# Altium schematic symbol library industrial_GPIO.SchLib: 6 symbols
Pins are listed as number, name and electrical type; pins without a type are passive.

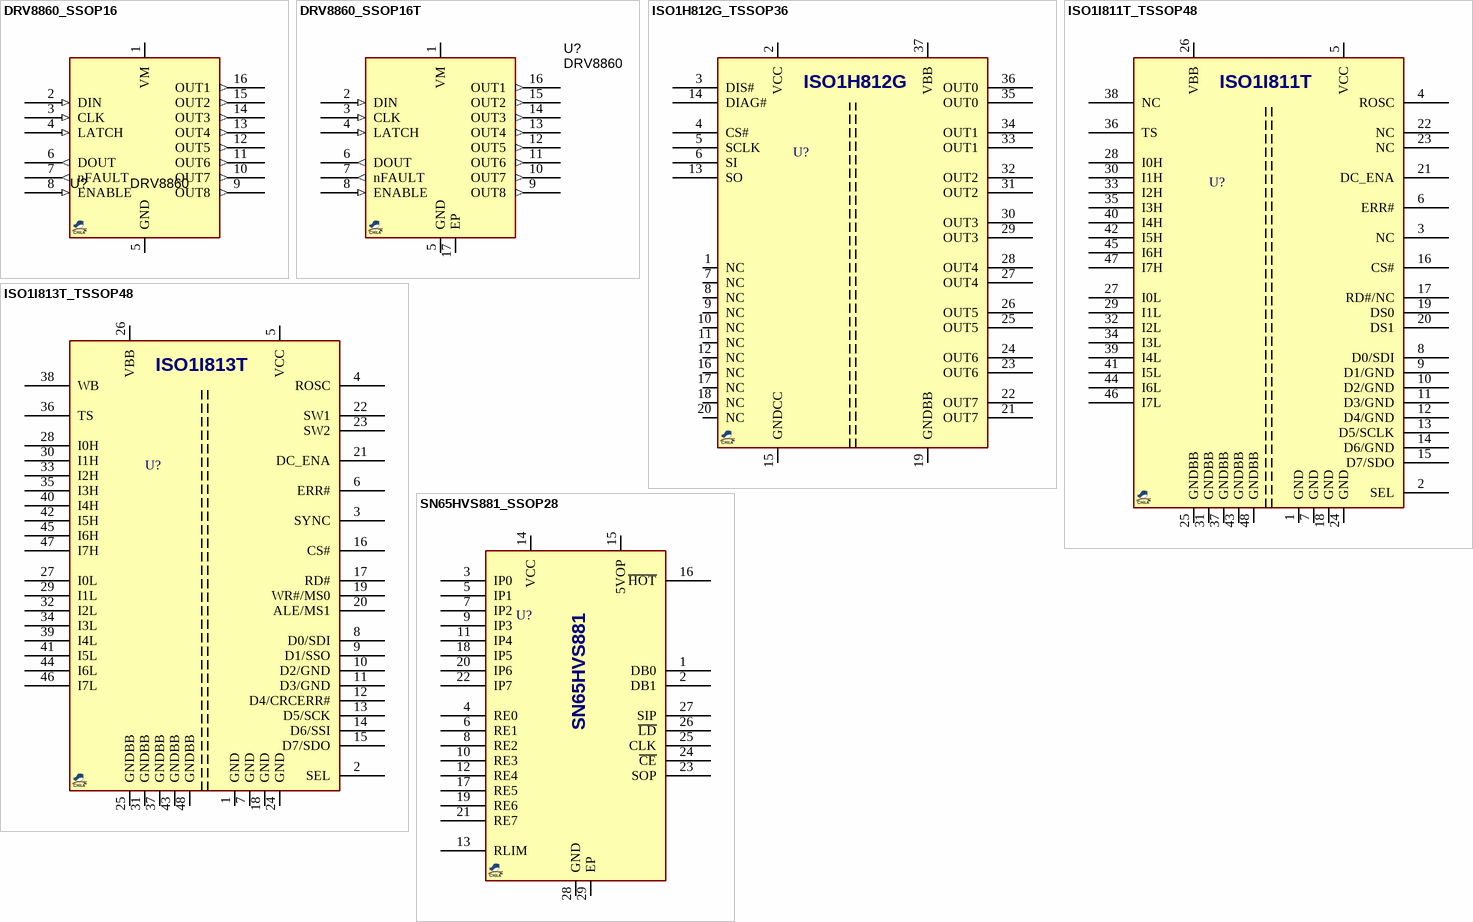
[diagram p0: symbols DRV8860_SSOP16 to SN65HVS881_SSOP28]

## DRV8860_SSOP16
designator U?, comment DRV8860
Driver, LOW SIDE, 8ch, SPI; MANF: Texas Instruments; MANF_P#: DRV8860PWR; PARAM2: 8~38VM; PARAM: 200mA per Ch, -40~85°C; PRICE: 4$; VALUE: DRV8860
footprint SOG65_16 (PW TSSOP (TI), MO-153-AB (JEDEC), 16Lead, pitch: 0.65mm, 5x4.4x1.2mm)
pins: 1 VM (power), 2 DIN (in), 3 CLK (in), 4 LATCH (in), 5 GND (power), 6 DOUT (out), 7 nFAULT (out), 8 ENABLE (in), 9 OUT8 (out), 10 OUT7 (out), 11 OUT6 (out), 12 OUT5 (out), 13 OUT4 (out), 14 OUT3 (out), 15 OUT2 (out), 16 OUT1 (out)

## DRV8860_SSOP16T
designator U?, comment DRV8860
Driver, LOW SIDE, 8ch, SPI; MANF: Texas Instruments; MANF_P#: DRV8860PWP; PARAM2: 8~38VM; PARAM: 200mA per Ch, -40~85°C; PRICE: 4$; VALUE: DRV8860
footprint SOG65_16T (TSSOP 4.4mm(MAXIM), MO-153-ABT (JEDEC), 16Lead, pitch: 0.65mm, 5x4.4x1.2mm)
pins: 1 VM (power), 2 DIN (in), 3 CLK (in), 4 LATCH (in), 5 GND (power), 6 DOUT (out), 7 nFAULT (out), 8 ENABLE (in), 9 OUT8 (out), 10 OUT7 (out), 11 OUT6 (out), 12 OUT5 (out), 13 OUT4 (out), 14 OUT3 (out), 15 OUT2 (out), 16 OUT1 (out), 17 EP

## ISO1H812G_TSSOP36
designator U?, comment ISO1H812G  (value not drawn)
Output, Isolated Industrial, 8ch; MANF: Infineon; MANF_P#: ISO1H812GAUMA; PARAM2: 11~35Vcc, 3.3/5v; PARAM: 0.625A, -40~85°C; PRICE: 8$; VALUE: ISO1H812G
footprint SOG65_36T_D (HSSOP 36 DKD 11mm Width, 0.65mm pitch)
pins: 1 NC, 2 VCC, 3 DIS#, 4 CS#, 5 SCLK, 6 SI, 7 NC, 8 NC, 9 NC, 10 NC, 11 NC, 12 NC, 13 SO, 14 DIAG#, 15 GNDCC, 16 NC, 17 NC, 18 NC, 19 GNDBB, 20 NC, 21 OUT7, 22 OUT7, 23 OUT6, 24 OUT6, 25 OUT5, 26 OUT5, 27 OUT4, 28 OUT4, 29 OUT3, 30 OUT3, 31 OUT2, 32 OUT2, 33 OUT1, 34 OUT1, 35 OUT0, 36 OUT0, 37 VBB

## ISO1I811T_TSSOP48
designator U?, comment ISO1I811T  (value not drawn)
Input, Isolated Industrial, 8ch; MANF: Infineon; MANF_P#: ISO1I811TXUMA1; PARAM2: 9.6~35Vcc, 3.3/5v; PARAM: -40~85°C; PRICE: 6$; VALUE: ISO1I811T
footprint SOG50_48 (DGG, MO-153-ED, SOT362-1, TSSOP48, pitch: 0.5mm, 12.5x6.1x1.2mm)
pins: 1 GND, 2 SEL, 3 NC, 4 ROSC, 5 VCC, 6 ERR#, 7 GND, 8 D0/SDI, 9 D1/GND, 10 D2/GND, 11 D3/GND, 12 D4/GND, 13 D5/SCLK, 14 D6/GND, 15 D7/SDO, 16 CS#, 17 RD#/NC, 18 GND, 19 DS0, 20 DS1, 21 DC_ENA, 22 NC, 23 NC, 24 GND, 25 GNDBB, 26 VBB, 27 I0L, 28 I0H, 29 I1L, 30 I1H, 31 GNDBB, 32 I2L, 33 I2H, 34 I3L, 35 I3H, 36 TS, 37 GNDBB, 38 NC, 39 I4L, 40 I4H, 41 I5L, 42 I5H, 43 GNDBB, 44 I6L, 45 I6H, 46 I7L, 47 I7H, 48 GNDBB

## ISO1I813T_TSSOP48
designator U?, comment ISO1I813T  (value not drawn)
Input, Isolated Industrial, 8ch; MANF: Infineon; MANF_P#: ISO1I813TXUMA1; PARAM2: 9.6~35Vcc, 3.3/5v; PARAM: -40~85°C; PRICE: 6$; VALUE: ISO1I813T
footprint SOG50_48 (DGG, MO-153-ED, SOT362-1, TSSOP48, pitch: 0.5mm, 12.5x6.1x1.2mm)
pins: 1 GND, 2 SEL, 3 SYNC, 4 ROSC, 5 VCC, 6 ERR#, 7 GND, 8 D0/SDI, 9 D1/SSO, 10 D2/GND, 11 D3/GND, 12 D4/CRCERR#, 13 D5/SCK, 14 D6/SSI, 15 D7/SDO, 16 CS#, 17 RD#, 18 GND, 19 WR#/MS0, 20 ALE/MS1, 21 DC_ENA, 22 SW1, 23 SW2, 24 GND, 25 GNDBB, 26 VBB, 27 I0L, 28 I0H, 29 I1L, 30 I1H, 31 GNDBB, 32 I2L, 33 I2H, 34 I3L, 35 I3H, 36 TS, 37 GNDBB, 38 WB, 39 I4L, 40 I4H, 41 I5L, 42 I5H, 43 GNDBB, 44 I6L, 45 I6H, 46 I7L, 47 I7H, 48 GNDBB

## SN65HVS881_SSOP28
designator U?, comment SN65HVS881  (value not drawn)
Input, Industrial, 8ch; MANF: Texas Instrument; MANF_P#: SN65HVS881PWP; PARAM2: 10~34Vcc, 5VOP; PARAM: 0.2~5.2mA, -40~85°C; PRICE: 5$; VALUE: SN65HVS881
footprint SOG65_28T (TSSOP 4.4mm, MO-153-AET (JEDEC), 28TLead, pitch: 0.65mm, 10x4.4x1.2mm, PWP HTSSOP R-PDSO-G28)
pins: 1 DB0 (power), 2 DB1 (power), 3 IP0 (power), 4 RE0 (power), 5 IP1 (power), 6 RE1 (power), 7 IP2 (power), 8 RE2 (power), 9 IP3 (power), 10 RE3 (power), 11 IP4 (power), 12 RE4 (power), 13 RLIM (power), 14 VCC (power), 15 5VOP (power), 16 ~{HOT} (power), 17 RE5 (power), 18 IP5 (power), 19 RE6 (power), 20 IP6 (power), 21 RE7 (power), 22 IP7 (power), 23 SOP (power), 24 ~{CE} (power), 25 CLK (power), 26 ~{LD} (power), 27 SIP (power), 28 GND (power), 29 EP (power)